# Altium footprint library ERA3ARB104P.PcbLib: 3 footprints
Each footprint in its own frame and in the unit in brackets; x right, y up, seen from the top. Pads: shape width x height; smd on the part's side, far side on the other; paste and mask are expansions set on the pad; w line width, h text height; cw(c..) or ccw(c..) is an arc to the next point about the centre after c.
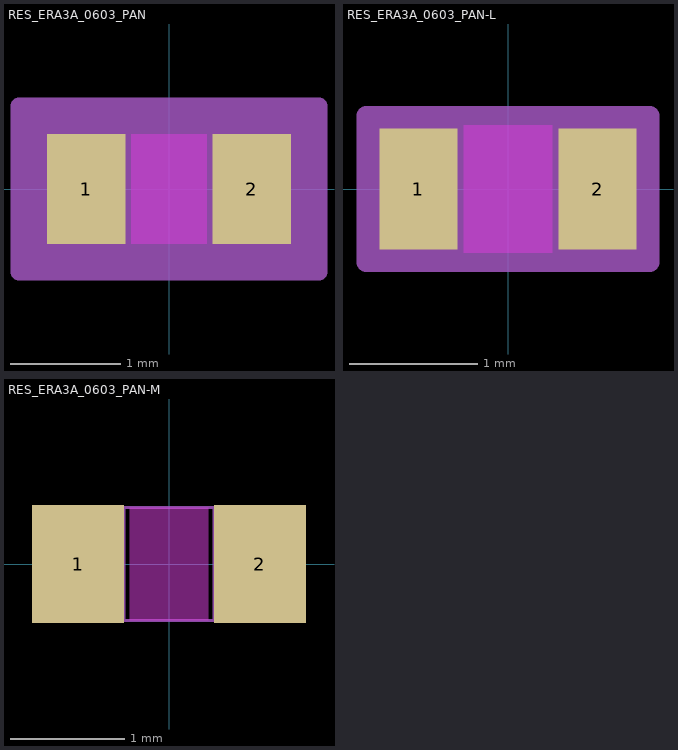
[diagram p0: the footprints below, top view; thin cyan lines are the x and y axes]

## RES_ERA3A_0603_PAN [mil]
pads (2):
  rect 27.87x39 smd paste+0 mask+0: 1(-29.44,0) 2(29.44,0)
Top Layer keep-out:
  region: -13.5,-17.5 -13.5,17.5 13.5,17.5 13.5,-17.5
Top Overlay:
  text ".Designator" at -137.5,-25 h50
Keep-Out Layer:
  region: -13.5,-19.5 -13.5,19.5 13.5,19.5 13.5,-19.5
Mechanical 13:
  lines w1: -35.5,-19.5 -35.5,19.5 ; -35.5,-19.5 -15.5,-19.5 -15.5,19.5 -35.5,19.5 ; -35.5,-19.5 35.5,-19.5 ; -35.5,-19.5 -35.5,19.5 ; -35.5,19.5 35.5,19.5 ; 35.5,-19.5 15.5,-19.5 15.5,19.5 35.5,19.5 ; 35.5,-19.5 35.5,19.5 ; 35.5,-19.5 35.5,19.5
  text ".Designator" at -137.5,-25 h50
Mechanical 15:
  region: 53.37,-29.5 -53.37,-29.5 -53.37,29.5 53.37,29.5
  lines w6: -53.37,-29.5 -53.37,29.5 53.37,29.5 53.37,-29.5 -53.37,-29.5
3D body "RES_ERA3A_0603_PAN.step": height 22.01, standoff 0, extent -35.51,-19.49 35.51,19.49

## RES_ERA3A_0603_PAN-L [mil]
pads (2):
  rect 23.94x37.03 smd paste+0 mask+0: 1(-27.47,0) 2(27.47,0)
Top Layer keep-out:
  region: -13.5,-17.5 -13.5,17.5 13.5,17.5 13.5,-17.5
Keep-Out Layer:
  region: -13.5,-19.5 -13.5,19.5 13.5,19.5 13.5,-19.5
Mechanical 13:
  lines w1: -35.5,-19.5 -35.5,19.5 ; -35.5,-19.5 35.5,-19.5 ; -35.5,-19.5 -15.5,-19.5 -15.5,19.5 -35.5,19.5 ; -35.5,-19.5 -35.5,19.5 ; -35.5,19.5 35.5,19.5 ; 35.5,-19.5 35.5,19.5 ; 35.5,-19.5 35.5,19.5 ; 35.5,-19.5 15.5,-19.5 15.5,19.5 35.5,19.5
  text ".Designator" at -137.5,-25 h50
Mechanical 15:
  region: 43.44,-22.52 -43.44,-22.52 -43.44,22.52 43.44,22.52
  lines w6: -43.44,-22.52 43.44,-22.52 43.44,22.52 -43.44,22.52 -43.44,-22.52
3D body "RES_ERA3A_0603_PAN.step": height 22.01, standoff 0, extent -35.51,-19.49 35.51,19.49

## RES_ERA3A_0603_PAN-M [mil]
pads (2):
  rect 31.81x40.97 smd paste+0 mask+0: 1(-31.41,0) 2(31.41,0)
Top Layer keep-out:
  region: -13.5,-17.5 -13.5,17.5 13.5,17.5 13.5,-17.5
Keep-Out Layer:
  region: -13.5,-19.5 -13.5,19.5 13.5,19.5 13.5,-19.5
Mechanical 13:
  lines w1: -35.5,-19.5 -35.5,19.5 ; -35.5,-19.5 -15.5,-19.5 -15.5,19.5 -35.5,19.5 ; -35.5,-19.5 35.5,-19.5 ; -35.5,-19.5 -35.5,19.5 ; -35.5,19.5 35.5,19.5 ; 35.5,-19.5 15.5,-19.5 15.5,19.5 35.5,19.5 ; 35.5,-19.5 35.5,19.5 ; 35.5,-19.5 35.5,19.5
3D body "RES_ERA3A_0603_PAN.step": height 22.01, standoff 0, extent -35.51,-19.49 35.51,19.49